# Altium footprint library SW_100SP1T1B4M2QE.PcbLib: 1 footprints
Each footprint in its own frame and in the unit in brackets; x right, y up, seen from the top. Pads: shape width x height; smd on the part's side, far side on the other; paste and mask are expansions set on the pad; w line width, h text height; cw(c..) or ccw(c..) is an arc to the next point about the centre after c.
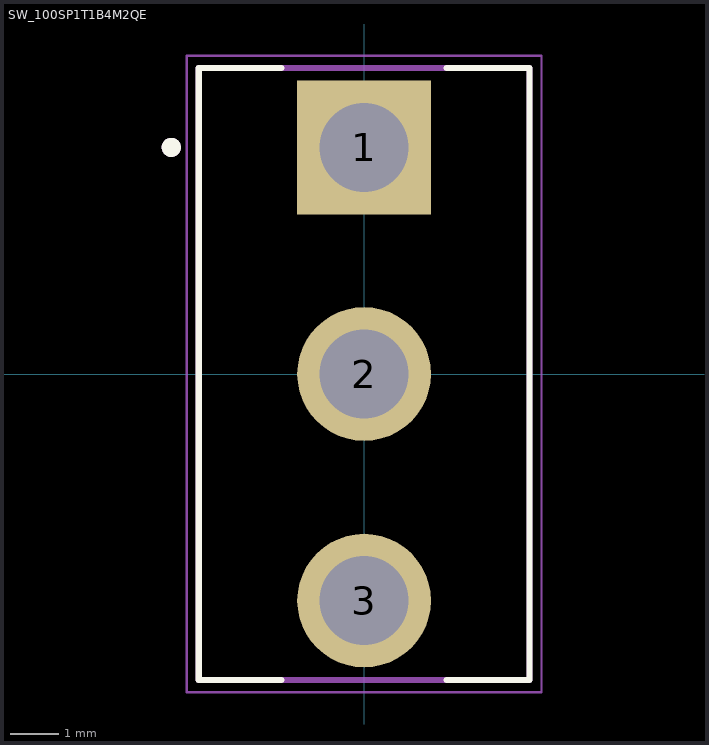
[diagram p0: the footprint, top view; thin cyan lines are the x and y axes]

## SW_100SP1T1B4M2QE [mm]
pads (3):
  rect 2.775x2.775 hole 1.85: 1(0,4.7)
  round 2.775 hole 1.85: 2(0,0) 3(0,-4.7)
Top Overlay:
  circle w0.2: c-4,4.7 r0.1
  lines w0.127: -1.71,-6.35 -3.43,-6.35 -3.43,6.35 -1.71,6.35 ; 1.71,-6.35 3.43,-6.35 3.43,6.35 1.71,6.35
Mechanical 13:
  circle w0.2: c-4,4.7 r0.1
  lines w0.127: -3.43,-6.35 -3.43,6.35 3.43,6.35 3.43,-6.35 -3.43,-6.35
Mechanical 15:
  lines w0.05: -3.68,-6.6 -3.68,6.6 3.68,6.6 3.68,-6.6 -3.68,-6.6